# Altium schematic symbol library dungvh03-ICs.SchLib: 787 symbols (part 29 of 30)
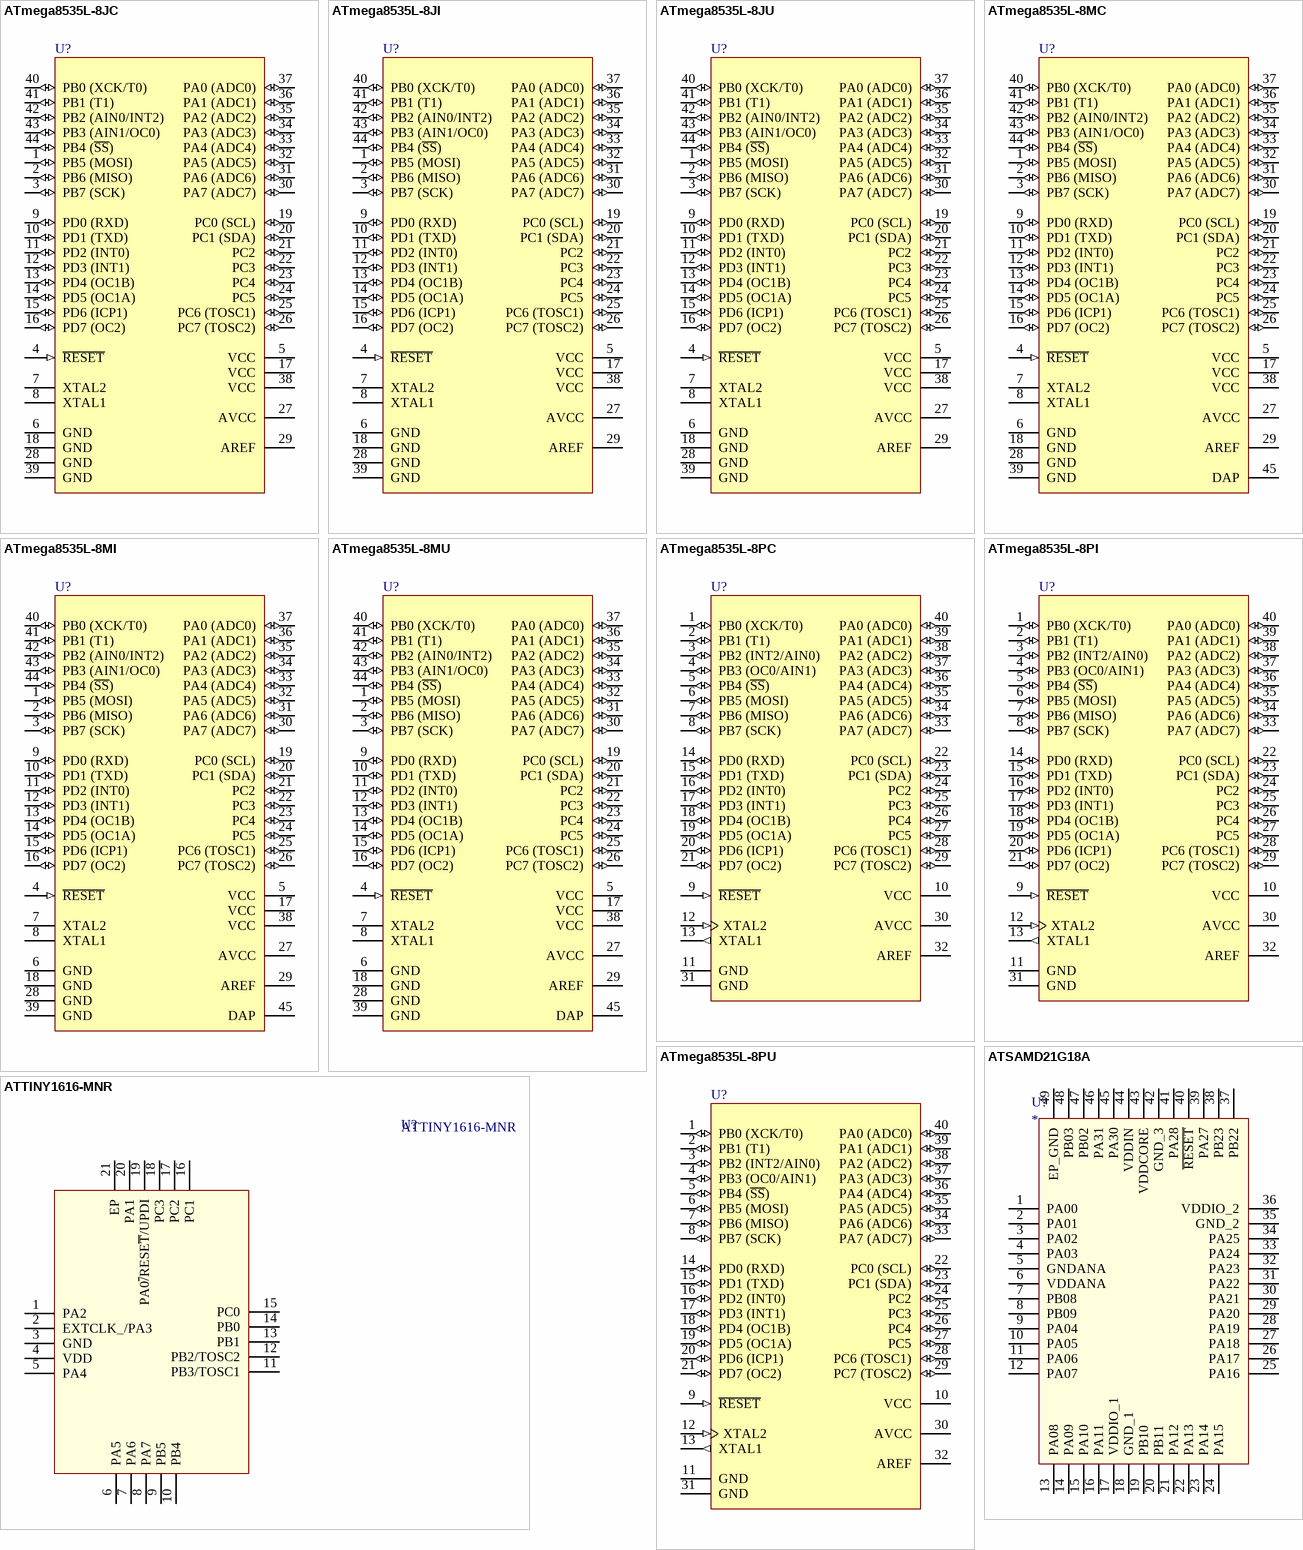
[diagram p126: symbols ATmega8535L-8JC to ATTINY1616-MNR]

## ATmega8535L-8JC
designator U?
8-bit AVR Microcontroller, 8KB Flash, 512 Bytes EEPROM, 512 Bytes SRAM, 2.7-5.5V, 44-pin PLCC, Commercial Grade (0°C to 70°C); DatasheetVersion: revK, Oct-2006; PackageVersion: rev.B, Oct-2001; PackageReference: 44J; PackageDescription: 44-Pin Plastic J-Leaded Chip Carrier 1.27 mm Pitch (PLCC); Code_JEDEC: MS-018-AC; Code_IPC: PLCC-44; ComponentLink1Description: Manufacturer URL; ComponentLink1URL: http://www.atmel.com/; ComponentLink2Description: ATmega8535(L) Datasheet; ComponentLink2URL: http://www.atmel.com/dyn/resources/prod_documents/doc2502.pdf; ComponentLink3Description: ATmega8535(L) Summary; ComponentLink3URL: http://www.atmel.com/dyn/resources/prod_documents/2502S.pdf
footprint 44J_N (Leaded Chip Carrier, 44-Leads, Body 16.6x16.6mm, Pitch 1.27mm, IPC Medium Density)
footprint 44J_L (Leaded Chip Carrier, 44-Leads, Body 16.6x16.6mm, Pitch 1.27mm, IPC High Density)
footprint 44J_M (Leaded Chip Carrier, 44-Leads, Body 16.6x16.6mm, Pitch 1.27mm, IPC Low Density)
pins: 1 PB5 (MOSI) (io), 2 PB6 (MISO) (io), 3 PB7 (SCK) (io), 4 ~{RESET} (in), 5 VCC (power), 6 GND (power), 7 XTAL2, 8 XTAL1, 9 PD0 (RXD) (io), 10 PD1 (TXD) (io), 11 PD2 (INT0) (io), 12 PD3 (INT1) (io), 13 PD4 (OC1B) (io), 14 PD5 (OC1A) (io), 15 PD6 (ICP1) (io), 16 PD7 (OC2) (io), 17 VCC (power), 18 GND (power), 19 PC0 (SCL) (io), 20 PC1 (SDA) (io), 21 PC2 (io), 22 PC3 (io), 23 PC4 (io), 24 PC5 (io), 25 PC6 (TOSC1) (io), 26 PC7 (TOSC2) (io), 27 AVCC (power), 28 GND (power), 29 AREF, 30 PA7 (ADC7) (io), 31 PA6 (ADC6) (io), 32 PA5 (ADC5) (io), 33 PA4 (ADC4) (io), 34 PA3 (ADC3) (io), 35 PA2 (ADC2) (io), 36 PA1 (ADC1) (io), 37 PA0 (ADC0) (io), 38 VCC (power), 39 GND (power), 40 PB0 (XCK/T0) (io), 41 PB1 (T1) (io), 42 PB2 (AIN0/INT2) (io), 43 PB3 (AIN1/OC0) (io), 44 PB4 (~{SS}) (io)

## ATmega8535L-8JI
designator U?
8-bit AVR Microcontroller, 8KB Flash, 512 Bytes EEPROM, 512 Bytes SRAM, 2.7-5.5V, 44-pin PLCC, Industrial Grade (-40°C to 85°C); DatasheetVersion: revK, Oct-2006; PackageVersion: rev.B, Oct-2001; PackageReference: 44J; PackageDescription: 44-Pin Plastic J-Leaded Chip Carrier 1.27 mm Pitch (PLCC); Code_JEDEC: MS-018-AC; Code_IPC: PLCC-44; ComponentLink1Description: Manufacturer URL; ComponentLink1URL: http://www.atmel.com/; ComponentLink2Description: ATmega8535(L) Datasheet; ComponentLink2URL: http://www.atmel.com/dyn/resources/prod_documents/doc2502.pdf; ComponentLink3Description: ATmega8535(L) Summary; ComponentLink3URL: http://www.atmel.com/dyn/resources/prod_documents/2502S.pdf
footprint 44J_N (Leaded Chip Carrier, 44-Leads, Body 16.6x16.6mm, Pitch 1.27mm, IPC Medium Density)
footprint 44J_L (Leaded Chip Carrier, 44-Leads, Body 16.6x16.6mm, Pitch 1.27mm, IPC High Density)
footprint 44J_M (Leaded Chip Carrier, 44-Leads, Body 16.6x16.6mm, Pitch 1.27mm, IPC Low Density)
pins: 1 PB5 (MOSI) (io), 2 PB6 (MISO) (io), 3 PB7 (SCK) (io), 4 ~{RESET} (in), 5 VCC (power), 6 GND (power), 7 XTAL2, 8 XTAL1, 9 PD0 (RXD) (io), 10 PD1 (TXD) (io), 11 PD2 (INT0) (io), 12 PD3 (INT1) (io), 13 PD4 (OC1B) (io), 14 PD5 (OC1A) (io), 15 PD6 (ICP1) (io), 16 PD7 (OC2) (io), 17 VCC (power), 18 GND (power), 19 PC0 (SCL) (io), 20 PC1 (SDA) (io), 21 PC2 (io), 22 PC3 (io), 23 PC4 (io), 24 PC5 (io), 25 PC6 (TOSC1) (io), 26 PC7 (TOSC2) (io), 27 AVCC (power), 28 GND (power), 29 AREF, 30 PA7 (ADC7) (io), 31 PA6 (ADC6) (io), 32 PA5 (ADC5) (io), 33 PA4 (ADC4) (io), 34 PA3 (ADC3) (io), 35 PA2 (ADC2) (io), 36 PA1 (ADC1) (io), 37 PA0 (ADC0) (io), 38 VCC (power), 39 GND (power), 40 PB0 (XCK/T0) (io), 41 PB1 (T1) (io), 42 PB2 (AIN0/INT2) (io), 43 PB3 (AIN1/OC0) (io), 44 PB4 (~{SS}) (io)

## ATmega8535L-8JU
designator U?
8-bit AVR Microcontroller, 8KB Flash, 512 Bytes EEPROM, 512 Bytes SRAM, 2.7-5.5V, 44-pin PLCC, Industrial Grade (-40°C to 85°C); DatasheetVersion: revK, Oct-2006; PackageVersion: rev.B, Oct-2001; PackageReference: 44J; PackageDescription: 44-Pin Plastic J-Leaded Chip Carrier 1.27 mm Pitch (PLCC); Code_JEDEC: MS-018-AC; Code_IPC: PLCC-44; ComponentLink1Description: Manufacturer URL; ComponentLink1URL: http://www.atmel.com/; ComponentLink2Description: ATmega8535(L) Datasheet; ComponentLink2URL: http://www.atmel.com/dyn/resources/prod_documents/doc2502.pdf; ComponentLink3Description: ATmega8535(L) Summary; ComponentLink3URL: http://www.atmel.com/dyn/resources/prod_documents/2502S.pdf
footprint 44J_N (Leaded Chip Carrier, 44-Leads, Body 16.6x16.6mm, Pitch 1.27mm, IPC Medium Density)
footprint 44J_L (Leaded Chip Carrier, 44-Leads, Body 16.6x16.6mm, Pitch 1.27mm, IPC High Density)
footprint 44J_M (Leaded Chip Carrier, 44-Leads, Body 16.6x16.6mm, Pitch 1.27mm, IPC Low Density)
pins: 1 PB5 (MOSI) (io), 2 PB6 (MISO) (io), 3 PB7 (SCK) (io), 4 ~{RESET} (in), 5 VCC (power), 6 GND (power), 7 XTAL2, 8 XTAL1, 9 PD0 (RXD) (io), 10 PD1 (TXD) (io), 11 PD2 (INT0) (io), 12 PD3 (INT1) (io), 13 PD4 (OC1B) (io), 14 PD5 (OC1A) (io), 15 PD6 (ICP1) (io), 16 PD7 (OC2) (io), 17 VCC (power), 18 GND (power), 19 PC0 (SCL) (io), 20 PC1 (SDA) (io), 21 PC2 (io), 22 PC3 (io), 23 PC4 (io), 24 PC5 (io), 25 PC6 (TOSC1) (io), 26 PC7 (TOSC2) (io), 27 AVCC (power), 28 GND (power), 29 AREF, 30 PA7 (ADC7) (io), 31 PA6 (ADC6) (io), 32 PA5 (ADC5) (io), 33 PA4 (ADC4) (io), 34 PA3 (ADC3) (io), 35 PA2 (ADC2) (io), 36 PA1 (ADC1) (io), 37 PA0 (ADC0) (io), 38 VCC (power), 39 GND (power), 40 PB0 (XCK/T0) (io), 41 PB1 (T1) (io), 42 PB2 (AIN0/INT2) (io), 43 PB3 (AIN1/OC0) (io), 44 PB4 (~{SS}) (io)

## ATmega8535L-8MC
designator U?
8-bit AVR Microcontroller, 8KB Flash, 512 Bytes EEPROM, 512 Bytes SRAM, 2.7-5.5V, 44-pin VQFN, Commercial Grade (0°C to 70°C); DatasheetVersion: revK, Oct-2006; PackageVersion: revH, Sep-2008; PackageReference: 44M1; PackageDescription: 44-Pin Plastic Very Thin Quad Flat No-Lead Package, 7 x 7 x 1.0 mm Body, 0.5 mm Pitch (VQFN), 5.2 mm Exposed Pad; Code_JEDEC: MO-220-VKKD-1; ComponentLink1Description: Manufacturer URL; ComponentLink1URL: http://www.atmel.com/; ComponentLink2Description: ATmega8535(L) Datasheet; ComponentLink2URL: http://www.atmel.com/dyn/resources/prod_documents/doc2502.pdf; ComponentLink3Description: ATmega8535(L) Summary; ComponentLink3URL: http://www.atmel.com/dyn/resources/prod_documents/2502S.pdf
footprint 44M1_N (QFN, 44-Leads, Body 7x7mm, Pitch 0.5mm, Thermal Pad 5.3x5.3mm, IPC Medium Density)
footprint 44M1_L (QFN, 44-Leads, Body 7x7mm, Pitch 0.5mm, Thermal Pad 5.3x5.3mm, IPC High Density)
footprint 44M1_M (QFN, 44-Leads, Body 7x7mm, Pitch 0.5mm, Thermal Pad 5.3x5.3mm, IPC Low Density)
pins: 1 PB5 (MOSI) (io), 2 PB6 (MISO) (io), 3 PB7 (SCK) (io), 4 ~{RESET} (in), 5 VCC (power), 6 GND (power), 7 XTAL2, 8 XTAL1, 9 PD0 (RXD) (io), 10 PD1 (TXD) (io), 11 PD2 (INT0) (io), 12 PD3 (INT1) (io), 13 PD4 (OC1B) (io), 14 PD5 (OC1A) (io), 15 PD6 (ICP1) (io), 16 PD7 (OC2) (io), 17 VCC (power), 18 GND (power), 19 PC0 (SCL) (io), 20 PC1 (SDA) (io), 21 PC2 (io), 22 PC3 (io), 23 PC4 (io), 24 PC5 (io), 25 PC6 (TOSC1) (io), 26 PC7 (TOSC2) (io), 27 AVCC (power), 28 GND (power), 29 AREF, 30 PA7 (ADC7) (io), 31 PA6 (ADC6) (io), 32 PA5 (ADC5) (io), 33 PA4 (ADC4) (io), 34 PA3 (ADC3) (io), 35 PA2 (ADC2) (io), 36 PA1 (ADC1) (io), 37 PA0 (ADC0) (io), 38 VCC (power), 39 GND (power), 40 PB0 (XCK/T0) (io), 41 PB1 (T1) (io), 42 PB2 (AIN0/INT2) (io), 43 PB3 (AIN1/OC0) (io), 44 PB4 (~{SS}) (io), 45 DAP (power)

## ATmega8535L-8MI
designator U?
8-bit AVR Microcontroller, 8KB Flash, 512 Bytes EEPROM, 512 Bytes SRAM, 2.7-5.5V, 44-pin VQFN, Industrial Grade (-40°C to 85°C); DatasheetVersion: revK, Oct-2006; PackageVersion: revH, Sep-2008; PackageReference: 44M1; PackageDescription: 44-Pin Plastic Very Thin Quad Flat No-Lead Package, 7 x 7 x 1.0 mm Body, 0.5 mm Pitch (VQFN), 5.2 mm Exposed Pad; Code_JEDEC: MO-220-VKKD-1; ComponentLink1Description: Manufacturer URL; ComponentLink1URL: http://www.atmel.com/; ComponentLink2Description: ATmega8535(L) Datasheet; ComponentLink2URL: http://www.atmel.com/dyn/resources/prod_documents/doc2502.pdf; ComponentLink3Description: ATmega8535(L) Summary; ComponentLink3URL: http://www.atmel.com/dyn/resources/prod_documents/2502S.pdf
footprint 44M1_N (QFN, 44-Leads, Body 7x7mm, Pitch 0.5mm, Thermal Pad 5.3x5.3mm, IPC Medium Density)
footprint 44M1_L (QFN, 44-Leads, Body 7x7mm, Pitch 0.5mm, Thermal Pad 5.3x5.3mm, IPC High Density)
footprint 44M1_M (QFN, 44-Leads, Body 7x7mm, Pitch 0.5mm, Thermal Pad 5.3x5.3mm, IPC Low Density)
pins: 1 PB5 (MOSI) (io), 2 PB6 (MISO) (io), 3 PB7 (SCK) (io), 4 ~{RESET} (in), 5 VCC (power), 6 GND (power), 7 XTAL2, 8 XTAL1, 9 PD0 (RXD) (io), 10 PD1 (TXD) (io), 11 PD2 (INT0) (io), 12 PD3 (INT1) (io), 13 PD4 (OC1B) (io), 14 PD5 (OC1A) (io), 15 PD6 (ICP1) (io), 16 PD7 (OC2) (io), 17 VCC (power), 18 GND (power), 19 PC0 (SCL) (io), 20 PC1 (SDA) (io), 21 PC2 (io), 22 PC3 (io), 23 PC4 (io), 24 PC5 (io), 25 PC6 (TOSC1) (io), 26 PC7 (TOSC2) (io), 27 AVCC (power), 28 GND (power), 29 AREF, 30 PA7 (ADC7) (io), 31 PA6 (ADC6) (io), 32 PA5 (ADC5) (io), 33 PA4 (ADC4) (io), 34 PA3 (ADC3) (io), 35 PA2 (ADC2) (io), 36 PA1 (ADC1) (io), 37 PA0 (ADC0) (io), 38 VCC (power), 39 GND (power), 40 PB0 (XCK/T0) (io), 41 PB1 (T1) (io), 42 PB2 (AIN0/INT2) (io), 43 PB3 (AIN1/OC0) (io), 44 PB4 (~{SS}) (io), 45 DAP (power)

## ATmega8535L-8MU
designator U?
8-bit AVR Microcontroller, 8KB Flash, 512 Bytes EEPROM, 512 Bytes SRAM, 2.7-5.5V, 44-pin VQFN, Industrial Grade (-40°C to 85°C); DatasheetVersion: revK, Oct-2006; PackageVersion: revH, Sep-2008; PackageReference: 44M1; PackageDescription: 44-Pin Plastic Very Thin Quad Flat No-Lead Package, 7 x 7 x 1.0 mm Body, 0.5 mm Pitch (VQFN), 5.2 mm Exposed Pad; Code_JEDEC: MO-220-VKKD-1; ComponentLink1Description: Manufacturer URL; ComponentLink1URL: http://www.atmel.com/; ComponentLink2Description: ATmega8535(L) Datasheet; ComponentLink2URL: http://www.atmel.com/dyn/resources/prod_documents/doc2502.pdf; ComponentLink3Description: ATmega8535(L) Summary; ComponentLink3URL: http://www.atmel.com/dyn/resources/prod_documents/2502S.pdf
footprint 44M1_N (QFN, 44-Leads, Body 7x7mm, Pitch 0.5mm, Thermal Pad 5.3x5.3mm, IPC Medium Density)
footprint 44M1_L (QFN, 44-Leads, Body 7x7mm, Pitch 0.5mm, Thermal Pad 5.3x5.3mm, IPC High Density)
footprint 44M1_M (QFN, 44-Leads, Body 7x7mm, Pitch 0.5mm, Thermal Pad 5.3x5.3mm, IPC Low Density)
pins: 1 PB5 (MOSI) (io), 2 PB6 (MISO) (io), 3 PB7 (SCK) (io), 4 ~{RESET} (in), 5 VCC (power), 6 GND (power), 7 XTAL2, 8 XTAL1, 9 PD0 (RXD) (io), 10 PD1 (TXD) (io), 11 PD2 (INT0) (io), 12 PD3 (INT1) (io), 13 PD4 (OC1B) (io), 14 PD5 (OC1A) (io), 15 PD6 (ICP1) (io), 16 PD7 (OC2) (io), 17 VCC (power), 18 GND (power), 19 PC0 (SCL) (io), 20 PC1 (SDA) (io), 21 PC2 (io), 22 PC3 (io), 23 PC4 (io), 24 PC5 (io), 25 PC6 (TOSC1) (io), 26 PC7 (TOSC2) (io), 27 AVCC (power), 28 GND (power), 29 AREF, 30 PA7 (ADC7) (io), 31 PA6 (ADC6) (io), 32 PA5 (ADC5) (io), 33 PA4 (ADC4) (io), 34 PA3 (ADC3) (io), 35 PA2 (ADC2) (io), 36 PA1 (ADC1) (io), 37 PA0 (ADC0) (io), 38 VCC (power), 39 GND (power), 40 PB0 (XCK/T0) (io), 41 PB1 (T1) (io), 42 PB2 (AIN0/INT2) (io), 43 PB3 (AIN1/OC0) (io), 44 PB4 (~{SS}) (io), 45 DAP (power)

## ATmega8535L-8PC
designator U?
8-bit AVR Microcontroller, 8KB Flash, 512 Bytes EEPROM, 512 Bytes SRAM, 2.7-5.5V, 40-pin PDIP, Commercial Grade (0°C to 70°C); DatasheetVersion: revK, Oct-2006; PackageVersion: revB, Sep-2001; PackageReference: 40P6; PackageDescription: 40-lead (0.600"/15.24mm Wide) Plastic Dual Inline Package (PDIP); Code_JEDEC: MS-011-AC; ComponentLink1Description: Manufacturer URL; ComponentLink1URL: http://www.atmel.com/; ComponentLink2Description: ATmega8535(L) Datasheet; ComponentLink2URL: http://www.atmel.com/dyn/resources/prod_documents/doc2502.pdf; ComponentLink3Description: ATmega8535(L) Summary; ComponentLink3URL: http://www.atmel.com/dyn/resources/prod_documents/2502S.pdf
footprint 40P6 (DIP, 40-Leads, Row Spacing 15.24mm, Pitch 2.54mm, Body 52.2x13.95mm)
pins: 1 PB0 (XCK/T0) (io), 2 PB1 (T1) (io), 3 PB2 (INT2/AIN0) (io), 4 PB3 (OC0/AIN1) (io), 5 PB4 (~{SS}) (io), 6 PB5 (MOSI) (io), 7 PB6 (MISO) (io), 8 PB7 (SCK) (io), 9 ~{RESET} (in), 10 VCC (power), 11 GND (power), 12 XTAL2 (in), 13 XTAL1 (out), 14 PD0 (RXD) (io), 15 PD1 (TXD) (io), 16 PD2 (INT0) (io), 17 PD3 (INT1) (io), 18 PD4 (OC1B) (io), 19 PD5 (OC1A) (io), 20 PD6 (ICP1) (io), 21 PD7 (OC2) (io), 22 PC0 (SCL) (io), 23 PC1 (SDA) (io), 24 PC2 (io), 25 PC3 (io), 26 PC4 (io), 27 PC5 (io), 28 PC6 (TOSC1) (io), 29 PC7 (TOSC2) (io), 30 AVCC (power), 31 GND (power), 32 AREF (power), 33 PA7 (ADC7) (io), 34 PA6 (ADC6) (io), 35 PA5 (ADC5) (io), 36 PA4 (ADC4) (io), 37 PA3 (ADC3) (io), 38 PA2 (ADC2) (io), 39 PA1 (ADC1) (io), 40 PA0 (ADC0) (io)

## ATmega8535L-8PI
designator U?
8-bit AVR Microcontroller, 8KB Flash, 512 Bytes EEPROM, 512 Bytes SRAM, 2.7-5.5V, 40-pin PDIP, Industrial Grade (-40°C to 85°C); DatasheetVersion: revK, Oct-2006; PackageVersion: revB, Sep-2001; PackageReference: 40P6; PackageDescription: 40-lead (0.600"/15.24mm Wide) Plastic Dual Inline Package (PDIP); Code_JEDEC: MS-011-AC; ComponentLink1Description: Manufacturer URL; ComponentLink1URL: http://www.atmel.com/; ComponentLink2Description: ATmega8535(L) Datasheet; ComponentLink2URL: http://www.atmel.com/dyn/resources/prod_documents/doc2502.pdf; ComponentLink3Description: ATmega8535(L) Summary; ComponentLink3URL: http://www.atmel.com/dyn/resources/prod_documents/2502S.pdf
footprint 40P6 (DIP, 40-Leads, Row Spacing 15.24mm, Pitch 2.54mm, Body 52.2x13.95mm)
pins: 1 PB0 (XCK/T0) (io), 2 PB1 (T1) (io), 3 PB2 (INT2/AIN0) (io), 4 PB3 (OC0/AIN1) (io), 5 PB4 (~{SS}) (io), 6 PB5 (MOSI) (io), 7 PB6 (MISO) (io), 8 PB7 (SCK) (io), 9 ~{RESET} (in), 10 VCC (power), 11 GND (power), 12 XTAL2 (in), 13 XTAL1 (out), 14 PD0 (RXD) (io), 15 PD1 (TXD) (io), 16 PD2 (INT0) (io), 17 PD3 (INT1) (io), 18 PD4 (OC1B) (io), 19 PD5 (OC1A) (io), 20 PD6 (ICP1) (io), 21 PD7 (OC2) (io), 22 PC0 (SCL) (io), 23 PC1 (SDA) (io), 24 PC2 (io), 25 PC3 (io), 26 PC4 (io), 27 PC5 (io), 28 PC6 (TOSC1) (io), 29 PC7 (TOSC2) (io), 30 AVCC (power), 31 GND (power), 32 AREF (power), 33 PA7 (ADC7) (io), 34 PA6 (ADC6) (io), 35 PA5 (ADC5) (io), 36 PA4 (ADC4) (io), 37 PA3 (ADC3) (io), 38 PA2 (ADC2) (io), 39 PA1 (ADC1) (io), 40 PA0 (ADC0) (io)

## ATmega8535L-8PU
designator U?
8-bit AVR Microcontroller, 8KB Flash, 512 Bytes EEPROM, 512 Bytes SRAM, 2.7-5.5V, 40-pin PDIP, Industrial Grade (-40°C to 85°C); DatasheetVersion: revK, Oct-2006; PackageVersion: revB, Sep-2001; PackageReference: 40P6; PackageDescription: 40-lead (0.600"/15.24mm Wide) Plastic Dual Inline Package (PDIP); Code_JEDEC: MS-011-AC; ComponentLink1Description: Manufacturer URL; ComponentLink1URL: http://www.atmel.com/; ComponentLink2Description: ATmega8535(L) Datasheet; ComponentLink2URL: http://www.atmel.com/dyn/resources/prod_documents/doc2502.pdf; ComponentLink3Description: ATmega8535(L) Summary; ComponentLink3URL: http://www.atmel.com/dyn/resources/prod_documents/2502S.pdf
footprint 40P6 (DIP, 40-Leads, Row Spacing 15.24mm, Pitch 2.54mm, Body 52.2x13.95mm)
pins: 1 PB0 (XCK/T0) (io), 2 PB1 (T1) (io), 3 PB2 (INT2/AIN0) (io), 4 PB3 (OC0/AIN1) (io), 5 PB4 (~{SS}) (io), 6 PB5 (MOSI) (io), 7 PB6 (MISO) (io), 8 PB7 (SCK) (io), 9 ~{RESET} (in), 10 VCC (power), 11 GND (power), 12 XTAL2 (in), 13 XTAL1 (out), 14 PD0 (RXD) (io), 15 PD1 (TXD) (io), 16 PD2 (INT0) (io), 17 PD3 (INT1) (io), 18 PD4 (OC1B) (io), 19 PD5 (OC1A) (io), 20 PD6 (ICP1) (io), 21 PD7 (OC2) (io), 22 PC0 (SCL) (io), 23 PC1 (SDA) (io), 24 PC2 (io), 25 PC3 (io), 26 PC4 (io), 27 PC5 (io), 28 PC6 (TOSC1) (io), 29 PC7 (TOSC2) (io), 30 AVCC (power), 31 GND (power), 32 AREF (power), 33 PA7 (ADC7) (io), 34 PA6 (ADC6) (io), 35 PA5 (ADC5) (io), 36 PA4 (ADC4) (io), 37 PA3 (ADC3) (io), 38 PA2 (ADC2) (io), 39 PA1 (ADC1) (io), 40 PA0 (ADC0) (io)

## ATSAMD21G18A
designator U?
footprint QFN50P700X700
pins: 1 PA00, 2 PA01, 3 PA02, 4 PA03, 5 GNDANA, 6 VDDANA (power), 7 PB08, 8 PB09, 9 PA04, 10 PA05, 11 PA06, 12 PA07, 13 PA08, 14 PA09, 15 PA10, 16 PA11, 17 VDDIO_1 (power), 18 GND_1, 19 PB10, 20 PB11, 21 PA12, 22 PA13, 23 PA14, 24 PA15, 25 PA16, 26 PA17, 27 PA18, 28 PA19, 29 PA20, 30 PA21, 31 PA22, 32 PA23, 33 PA24, 34 PA25, 35 GND_2, 36 VDDIO_2 (power), 37 PB22, 38 PB23, 39 PA27, 40 ~{RESET}, 41 PA28, 42 GND_3, 43 VDDCORE (power), 44 VDDIN (power), 45 PA30, 46 PA31, 47 PB02, 48 PB03, 49 EP_GND

## ATTINY1616-MNR
designator U?
Microchip ATTINY1616-MNR, 8bit AVR Microcontroller, 20MHz, 16 kB Flash, 20-Pin VQFN; Geometry.Height: 0.9mm; Manufacturer_Name: Microchip; Manufacturer_Part_Number: ATTINY1616-MNR; RS Part Number: 1449436; RS Price/Stock: http://uk.rs-online.com/web/p/products/1449436; Arrow Part Number: ATTINY1616-MNR; Arrow Price/Stock: https://www.arrow.com/en/products/attiny1616-mnr/microchip-technology; Datasheet Link: http://ww1.microchip.com/downloads/en/DeviceDoc/ATtiny3216_ATtiny1616-data-sheet-40001997B.pdf
footprint VQFN20
pins: 1 PA2, 2 EXTCLK_/PA3, 3 GND, 4 VDD, 5 PA4, 6 PA5, 7 PA6, 8 PA7, 9 PB5, 10 PB4, 11 PB3/TOSC1, 12 PB2/TOSC2, 13 PB1, 14 PB0, 15 PC0, 16 PC1, 17 PC2, 18 PC3, 19 PA0~{/}RESE~{T}/UPDI, 20 PA1, 21 EP

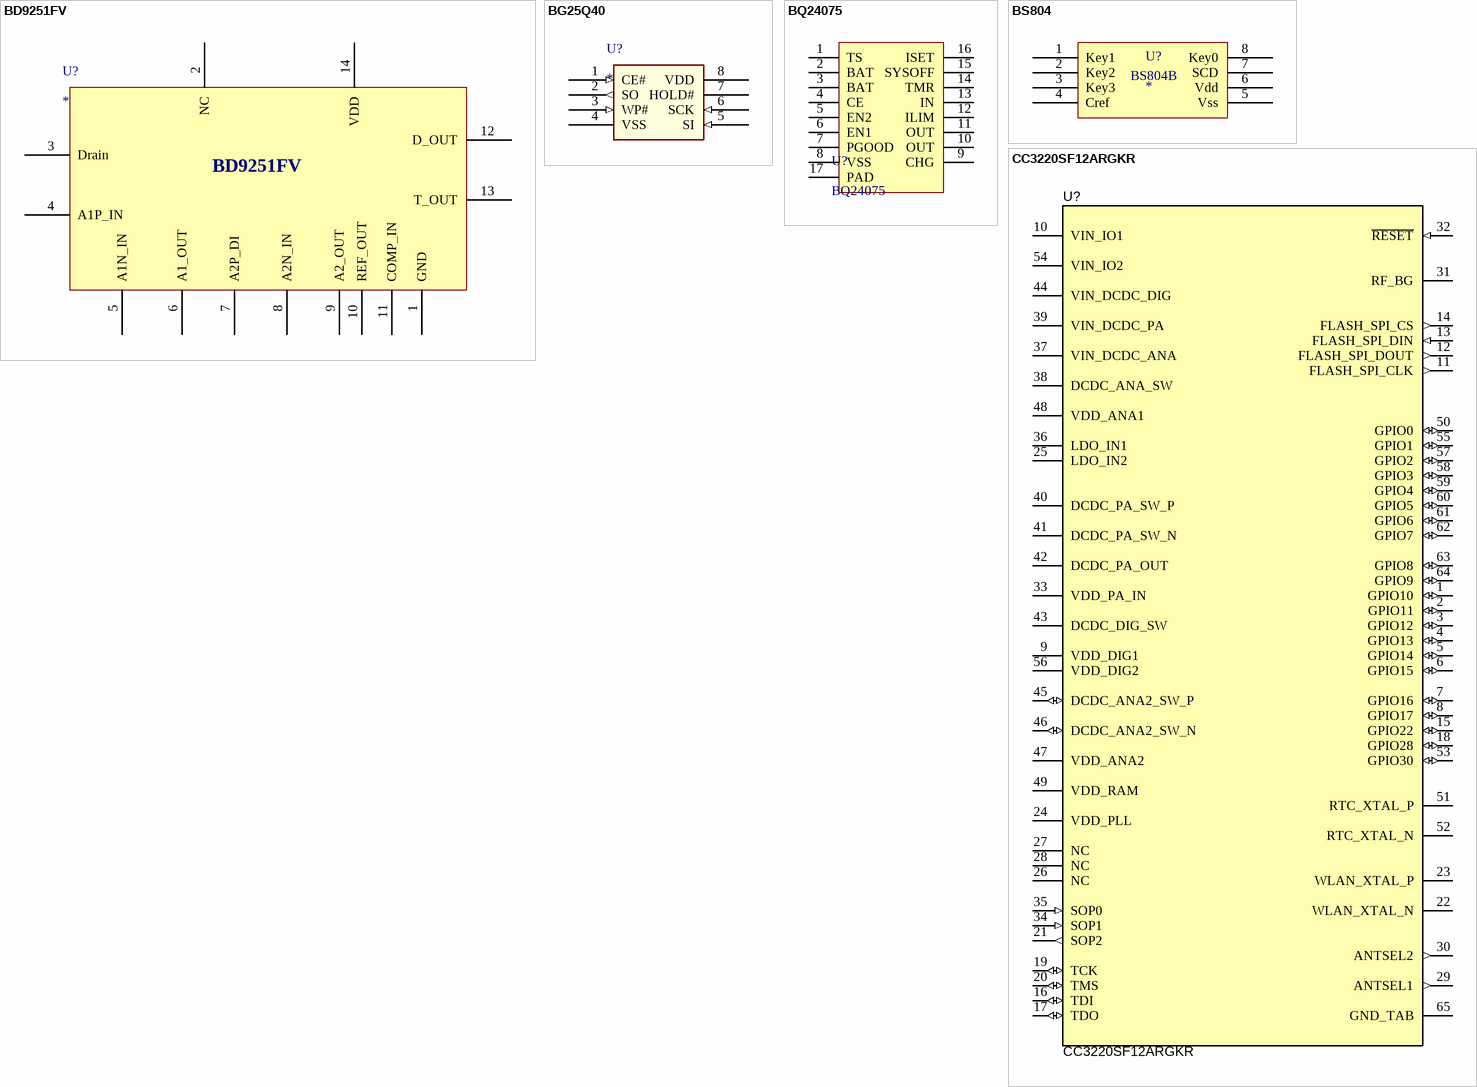
[diagram p89: symbols BD9251FV to CC3220SF12ARGKR]

## BD9251FV
designator U?
footprint SSOP-B14 (SSOP, 14-Leads, Body 5.10x4.50mm, Pitch 0.65mm, IPC Medium Density)
pins: 1 GND, 2 NC, 3 Drain, 4 A1P_IN, 5 A1N_IN, 6 A1_OUT, 7 A2P_DI, 8 A2N_IN, 9 A2_OUT, 10 REF_OUT, 11 COMP_IN, 12 D_OUT, 13 T_OUT, 14 VDD

## BG25Q40
designator U?
footprint SOIC-8
pins: 1 CE# (in), 2 SO (out), 3 WP# (in), 4 VSS (power), 5 SI (in), 6 SCK (in), 7 HOLD#, 8 VDD (power)

## BQ24075
designator U?
Power; Type: QFN16 P0.5
footprint QFN_P0.5_PAD_16
pins: 1 TS, 2 BAT, 3 BAT, 4 CE, 5 EN2, 6 EN1, 7 PGOOD, 8 VSS, 9 CHG, 10 OUT, 11 OUT, 12 ILIM, 13 IN, 14 TMR, 15 SYSOFF, 16 ISET, 17 PAD

## BS804
designator U?
footprint SOP-8
pins: 1 Key1, 2 Key2, 3 Key3, 4 Cref, 5 Vss, 6 Vdd, 7 SCD, 8 Key0
text: BS804B

## CC3220SF12ARGKR
designator U?
SimpleLink Wi-Fi and Internet-of-Things Solution, a Single-Chip Wireless MCU, RGK0064B (VQFN-64); Alternate PartNumber: CC3220SF12ARGKT; Manufacturer: Texas Instruments; SymbolCreator: Altium; CompType: IC; U/M: EA; SizeArea_mm2: 81; SizeAreaWB_mm2: 121; SizeX_mm: 9; SizeZ_mm: 1; SymbolVersion: 2015-09-21; PartNumber: CC3220SF12ARGKR; PackageReference: RGK0064B; MountType: SMT; ComponentLink1Description: Datasheet Link; ComponentLink1URL: https://sps06.itg.ti.com/sites/KMS/crossdivteams/altium/docs/ComponentDatasheets/SWAS035_CC3220_Advanced_Information_July2015.pdf; Publisher: Texas Instruments; LatestRevisionDate: 2016-11-18; Alternate Manufacturer: Texas Instruments; PackageDescription: VQFN-64; SizeY_mm: 9
footprint RGK0064B
pins: 1 GPIO10 (io), 2 GPIO11 (io), 3 GPIO12 (io), 4 GPIO13 (io), 5 GPIO14 (io), 6 GPIO15 (io), 7 GPIO16 (io), 8 GPIO17 (io), 9 VDD_DIG1 (power), 10 VIN_IO1 (power), 11 FLASH_SPI_CLK (out), 12 FLASH_SPI_DOUT (out), 13 FLASH_SPI_DIN (in), 14 FLASH_SPI_CS (out), 15 GPIO22 (io), 16 TDI (io), 17 TDO (io), 18 GPIO28 (io), 19 TCK (io), 20 TMS (io), 21 SOP2 (out), 22 WLAN_XTAL_N, 23 WLAN_XTAL_P, 24 VDD_PLL (power), 25 LDO_IN2 (power), 26 NC, 27 NC, 28 NC, 29 ANTSEL1 (out), 30 ANTSEL2 (out), 31 RF_BG, 32 ~{RESET} (in), 33 VDD_PA_IN (power), 34 SOP1 (in), 35 SOP0 (in), 36 LDO_IN1 (power), 37 VIN_DCDC_ANA (power), 38 DCDC_ANA_SW (power), 39 VIN_DCDC_PA (power), 40 DCDC_PA_SW_P (power), 41 DCDC_PA_SW_N (power), 42 DCDC_PA_OUT (power), 43 DCDC_DIG_SW (power), 44 VIN_DCDC_DIG (power), 45 DCDC_ANA2_SW_P (io), 46 DCDC_ANA2_SW_N (io), 47 VDD_ANA2 (power), 48 VDD_ANA1 (power), 49 VDD_RAM (power), 50 GPIO0 (io), 51 RTC_XTAL_P, 52 RTC_XTAL_N, 53 GPIO30 (io), 54 VIN_IO2 (power), 55 GPIO1 (io), 56 VDD_DIG2 (power), 57 GPIO2 (io), 58 GPIO3 (io), 59 GPIO4 (io), 60 GPIO5 (io), 61 GPIO6 (io), 62 GPIO7 (io), 63 GPIO8 (io), 64 GPIO9 (io), 65 GND_TAB (power)

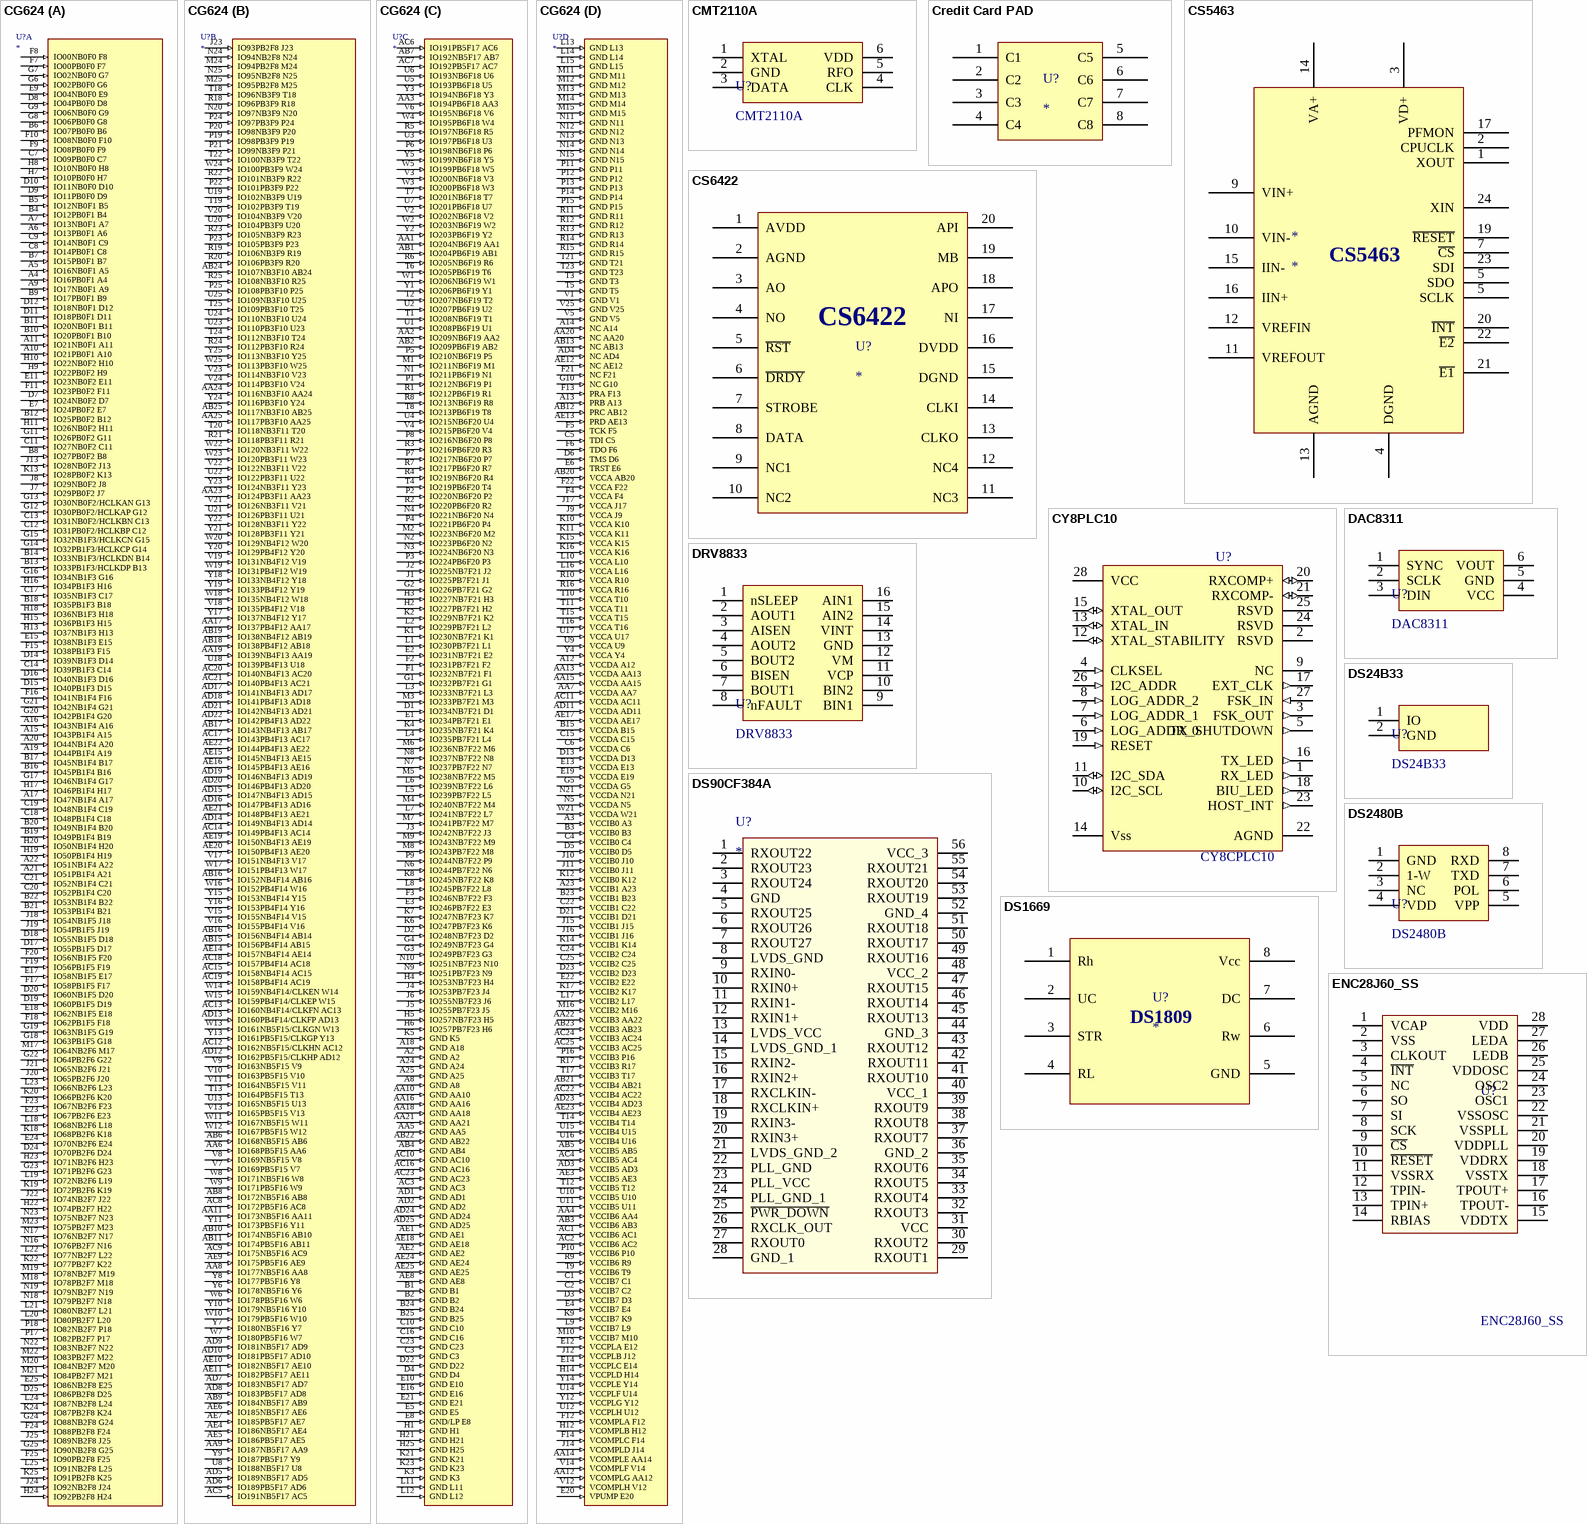
[diagram p90: symbols CG624 to ENC28J60_SS]

## CG624
designator U?
footprint CG624
part A pins: A4 IO16PB0F1 A4 (in), A5 IO16NB0F1 A5 (in), A6 IO13PB0F1 A6 (in), A7 IO13NB0F1 A7 (in), A9 IO17NB0F1 A9 (in), A10 IO21PB0F1 A10 (in), A11 IO21NB0F1 A11 (in), A15 IO43PB1F4 A15 (in), A16 IO43NB1F4 A16 (in), A17 IO47NB1F4 A17 (in), A19 IO44PB1F4 A19 (in), A20 IO44NB1F4 A20 (in), A21 IO51PB1F4 A21 (in), A22 IO51NB1F4 A22 (in), B4 IO12PB0F1 B4 (in), B5 IO12NB0F1 B5 (in), B6 IO07PB0F0 B6 (in), B7 IO15PB0F1 B7 (in), B8 IO27PB0F2 B8 (in), B9 IO17PB0F1 B9 (in), B10 IO20PB0F1 B10 (in), B11 IO20NB0F1 B11 (in), B12 IO25PB0F2 B12 (in), B13 IO33PB1F3/HCLKDP B13 (in), B14 IO33NB1F3/HCLKDN B14 (in), B16 IO45PB1F4 B16 (in), B17 IO45NB1F4 B17 (in), B18 IO35PB1F3 B18 (in), B19 IO49PB1F4 B19 (in), B20 IO49NB1F4 B20 (in), B21 IO53PB1F4 B21 (in), B22 IO53NB1F4 B22 (in), C7 IO09PB0F0 C7 (in), C8 IO14PB0F1 C8 (in), C9 IO14NB0F1 C9 (in), C11 IO27NB0F2 C11 (in), C12 IO31PB0F2/HCLKBP C12 (in), C13 IO31NB0F2/HCLKBN C13 (in), C14 IO39PB1F3 C14 (in), C17 IO35NB1F3 C17 (in), C18 IO48PB1F4 C18 (in), C19 IO48NB1F4 C19 (in), C20 IO52PB1F4 C20 (in), C21 IO52NB1F4 C21 (in), D7 IO24NB0F2 D7 (in), D8 IO04PB0F0 D8 (in), D9 IO11PB0F0 D9 (in), D10 IO11NB0F0 D10 (in), D11 IO18PB0F1 D11 (in), D12 IO18NB0F1 D12 (in), D14 IO39NB1F3 D14 (in), D15 IO40PB1F3 D15 (in), D16 IO40NB1F3 D16 (in), D17 IO55PB1F5 D17 (in), D18 IO55NB1F5 D18 (in), D19 IO60PB1F5 D19 (in), D20 IO60NB1F5 D20 (in), D24 IO70PB2F6 D24 (in), D25 IO86PB2F8 D25 (in), E7 IO24PB0F2 E7 (in), E9 IO04NB0F0 E9 (in), E11 IO23NB0F2 E11 (in), E15 IO38NB1F3 E15 (in), E17 IO58NB1F5 E17 (in), E18 IO62NB1F5 E18 (in), E23 IO67PB2F6 E23 (in), E24 IO70NB2F6 E24 (in), E25 IO86NB2F8 E25 (in), F7 IO00PB0F0 F7 (in), F8 IO00NB0F0 F8 (in), F9 IO08PB0F0 F9 (in), F10 IO08NB0F0 F10 (in), F11 IO23PB0F2 F11 (in), F15 IO38PB1F3 F15 (in), F16 IO41NB1F4 F16 (in), F17 IO58PB1F5 F17 (in), F18 IO62PB1F5 F18 (in), F19 IO56PB1F5 F19 (in), F20 IO56NB1F5 F20 (in), F23 IO67NB2F6 F23 (in), F24 IO88PB2F8 F24 (in), F25 IO90PB2F8 F25 (in), G6 IO02PB0F0 G6 (in), G7 IO02NB0F0 G7 (in), G8 IO06PB0F0 G8 (in), G9 IO06NB0F0 G9 (in), G11 IO26PB0F2 G11 (in), G12 IO30PB0F2/HCLKAP G12 (in), G13 IO30NB0F2/HCLKAN G13 (in), G14 IO32PB1F3/HCLKCP G14 (in), G15 IO32NB1F3/HCLKCN G15 (in), G16 IO34NB1F3 G16 (in), G17 IO46NB1F4 G17 (in), G18 IO63PB1F5 G18 (in), G19 IO63NB1F5 G19 (in), G20 IO42PB1F4 G20 (in), G21 IO42NB1F4 G21 (in), G22 IO64PB2F6 G22 (in), G23 IO71PB2F6 G23 (in), G24 IO88NB2F8 G24 (in), G25 IO90NB2F8 G25 (in), H7 IO10PB0F0 H7 (in), H8 IO10NB0F0 H8 (in), H9 IO22PB0F2 H9 (in), H10 IO22NB0F2 H10 (in), H11 IO26NB0F2 H11 (in), H13 IO37NB1F3 H13 (in), H15 IO36PB1F3 H15 (in), H16 IO34PB1F3 H16 (in), H17 IO46PB1F4 H17 (in), H18 IO36NB1F3 H18 (in), H19 IO50PB1F4 H19 (in), H20 IO50NB1F4 H20 (in), H22 IO74PB2F7 H22 (in), H23 IO71NB2F6 H23 (in), H24 IO92PB2F8 H24 (in), J7 IO29PB0F2 J7 (in), J8 IO29NB0F2 J8 (in), J13 IO28NB0F2 J13 (in), J18 IO54NB1F5 J18 (in), J19 IO54PB1F5 J19 (in), J20 IO65PB2F6 J20 (in), J21 IO65NB2F6 J21 (in), J22 IO74NB2F7 J22 (in), J24 IO92NB2F8 J24 (in), J25 IO89NB2F8 J25 (in), K13 IO28PB0F2 K13 (in), K18 IO68PB2F6 K18 (in), K19 IO72PB2F6 K19 (in), K20 IO66PB2F6 K20 (in), K22 IO77PB2F7 K22 (in), K24 IO87PB2F8 K24 (in), K25 IO91PB2F8 K25 (in), L18 IO68NB2F6 L18 (in), L19 IO72NB2F6 L19 (in), L20 IO80PB2F7 L20 (in), L21 IO80NB2F7 L21 (in), L22 IO77NB2F7 L22 (in), L23 IO66NB2F6 L23 (in), L24 IO87NB2F8 L24 (in), L25 IO91NB2F8 L25 (in), M17 IO64NB2F6 M17 (in), M18 IO78PB2F7 M18 (in), M19 IO78NB2F7 M19 (in), M20 IO84NB2F7 M20 (in), M21 IO84PB2F7 M21 (in), M22 IO83PB2F7 M22 (in), M23 IO75PB2F7 M23 (in), N16 IO76PB2F7 N16 (in), N17 IO76NB2F7 N17 (in), N18 IO79PB2F7 N18 (in), N19 IO79NB2F7 N19 (in), N22 IO83NB2F7 N22 (in), N23 IO75NB2F7 N23 (in), P17 IO82PB2F7 P17 (in), P18 IO82NB2F7 P18 (in)
part B pins: AA6 IO168PB5F15 AA6 (in), AA8 IO177NB5F16 AA8 (in), AA9 IO187NB5F17 AA9 (in), AA11 IO173NB5F16 AA11 (in), AA17 IO137PB4F12 AA17 (in), AA19 IO139NB4F13 AA19 (in), AA23 IO124PB3F11 AA23 (in), AA24 IO116NB3F10 AA24 (in), AA25 IO117PB3F10 AA25 (in), AB6 IO168NB5F15 AB6 (in), AB8 IO172NB5F16 AB8 (in), AB9 IO184NB5F17 AB9 (in), AB10 IO174NB5F16 AB10 (in), AB11 IO174PB5F16 AB11 (in), AB15 IO156PB4F14 AB15 (in), AB16 IO152NB4F14 AB16 (in), AB16 IO156NB4F14 AB14 (in), AB17 IO143NB4F13 AB17 (in), AB18 IO138PB4F12 AB18 (in), AB19 IO138NB4F12 AB19 (in), AB24 IO107NB3F10 AB24 (in), AB25 IO117NB3F10 AB25 (in), AC5 IO191NB5F17 AC5 (in), AC8 IO172PB5F16 AC8 (in), AC9 IO175NB5F16 AC9 (in), AC12 IO162NB5F15/CLKHN AC12 (in), AC13 IO160NB4F14/CLKFN AC13 (in), AC14 IO149PB4F13 AC14 (in), AC15 IO158NB4F14 AC15 (in), AC17 IO143PB4F13 AC17 (in), AC18 IO157PB4F14 AC18 (in), AC19 IO158PB4F14 AC19 (in), AC20 IO140NB4F13 AC20 (in), AC21 IO140PB4F13 AC21 (in), AD5 IO189NB5F17 AD5 (in), AD6 IO189PB5F17 AD6 (in), AD7 IO183NB5F17 AD7 (in), AD8 IO183PB5F17 AD8 (in), AD9 IO181NB5F17 AD9 (in), AD10 IO181PB5F17 AD10 (in), AD12 IO162PB5F15/CLKHP AD12 (in), AD13 IO160PB4F14/CLKFP AD13 (in), AD14 IO149NB4F13 AD14 (in), AD15 IO147NB4F13 AD15 (in), AD16 IO147PB4F13 AD16 (in), AD17 IO141NB4F13 AD17 (in), AD18 IO141PB4F13 AD18 (in), AD19 IO146NB4F13 AD19 (in), AD20 IO146PB4F13 AD20 (in), AD21 IO142NB4F13 AD21 (in), AD22 IO142PB4F13 AD22 (in), AE4 IO186NB5F17 AE4 (in), AE5 IO186PB5F17 AE5 (in), AE6 IO185NB5F17 AE6 (in), AE7 IO185PB5F17 AE7 (in), AE9 IO175PB5F16 AE9 (in), AE10 IO182NB5F17 AE10 (in), AE11 IO182PB5F17 AE11 (in), AE14 IO157NB4F14 AE14 (in), AE15 IO145NB4F13 AE15 (in), AE16 IO145PB4F13 AE16 (in), AE19 IO150NB4F13 AE19 (in), AE20 IO150PB4F13 AE20 (in), AE21 IO148PB4F13 AE21 (in), AE22 IO144PB4F13 AE22 (in), J23 IO93PB2F8 J23 (in), M24 IO94PB2F8 M24 (in), M25 IO95PB2F8 M25 (in), N20 IO97NB3F9 N20 (in), N24 IO94NB2F8 N24 (in), N25 IO95NB2F8 N25 (in), P19 IO98PB3F9 P19 (in), P20 IO98NB3F9 P20 (in), P21 IO99NB3F9 P21 (in), P22 IO101PB3F9 P22 (in), P23 IO105PB3F9 P23 (in), P24 IO97PB3F9 P24 (in), P25 IO108PB3F10 P25 (in), R18 IO96PB3F9 R18 (in), R19 IO106NB3F9 R19 (in), R20 IO106PB3F9 R20 (in), R21 IO118PB3F11 R21 (in), R22 IO101NB3F9 R22 (in), R23 IO105NB3F9 R23 (in), R24 IO112PB3F10 R24 (in), R25 IO108NB3F10 R25 (in), T13 IO164PB5F15 T13 (in), T18 IO96NB3F9 T18 (in), T19 IO102PB3F9 T19 (in), T20 IO118NB3F11 T20 (in), T22 IO100NB3F9 T22 (in), T24 IO112NB3F10 T24 (in), T25 IO109PB3F10 T25 (in), U8 IO188NB5F17 U8 (in), U13 IO165NB5F15 U13 (in), U18 IO139PB4F13 U18 (in), U19 IO102NB3F9 U19 (in), U20 IO104PB3F9 U20 (in), U21 IO126PB3F11 U21 (in), U22 IO122PB3F11 U22 (in), U23 IO110PB3F10 U23 (in), U24 IO110NB3F10 U24 (in), U25 IO109NB3F10 U25 (in), V7 IO169PB5F15 V7 (in), V8 IO169NB5F15 V8 (in), V9 IO163NB5F15 V9 (in), V10 IO163PB5F15 V10 (in), V11 IO164NB5F15 V11 (in), V13 IO165PB5F15 V13 (in), V15 IO155NB4F14 V15 (in), V16 IO155PB4F14 V16 (in), V17 IO151NB4F13 V17 (in), V18 IO135PB4F12 V18 (in), V19 IO131NB4F12 V19 (in), V20 IO104NB3F9 V20 (in), V21 IO126NB3F11 V21 (in), V22 IO122NB3F11 V22 (in), V23 IO114NB3F10 V23 (in), V24 IO114PB3F10 V24 (in), W6 IO178PB5F16 W6 (in), W7 IO180PB5F16 W7 (in), W8 IO171NB5F16 W8 (in), W9 IO171PB5F16 W9 (in), W10 IO179PB5F16 W10 (in), W11 IO167NB5F15 W11 (in), W12 IO167PB5F15 W12 (in), W13 IO161NB5F15/CLKGN W13 (in), W14 IO159NB4F14/CLKEN W14 (in), W15 IO159PB4F14/CLKEP W15 (in), W16 IO152PB4F14 W16 (in), W17 IO151PB4F13 W17 (in), W18 IO135NB4F12 W18 (in), W19 IO131PB4F12 W19 (in), W20 IO129NB4F12 W20 (in), W22 IO120NB3F11 W22 (in), W23 IO120PB3F11 W23 (in), W24 IO100PB3F9 W24 (in), W25 IO113PB3F10 W25 (in), Y6 IO178NB5F16 Y6 (in), Y7 IO180NB5F16 Y7 (in), Y8 IO177PB5F16 Y8 (in), Y9 IO187PB5F17 Y9 (in), Y10 IO179NB5F16 Y10 (in), Y11 IO173PB5F16 Y11 (in), Y13 IO161PB5F15/CLKGP Y13 (in), Y15 IO153NB4F14 Y15 (in), Y16 IO153PB4F14 Y16 (in), Y17 IO137NB4F12 Y17 (in), Y18 IO133NB4F12 Y18 (in), Y19 IO133PB4F12 Y19 (in), Y20 IO129PB4F12 Y20 (in), Y21 IO128PB3F11 Y21 (in), Y22 IO128NB3F11 Y22 (in), Y23 IO124NB3F11 Y23 (in), Y24 IO116PB3F10 Y24 (in), Y25 IO113NB3F10 Y25 (in)
part C pins: A2 GND A2 (in), A8 GND A8 (in), A18 GND A18 (in), A24 GND A24 (in), A25 GND A25 (in), AA1 IO204NB6F19 AA1 (in), AA2 IO209NB6F19 AA2 (in), AA3 IO194PB6F18 AA3 (in), AA5 GND AA5 (in), AA10 GND AA10 (in), AA16 GND AA16 (in), AA18 GND AA18 (in), AA21 GND AA21 (in), AB1 IO204PB6F19 AB1 (in), AB2 IO209PB6F19 AB2 (in), AB4 GND AB4 (in), AB7 IO192NB5F17 AB7 (in), AB22 GND AB22 (in), AC3 GND AC3 (in), AC6 IO191PB5F17 AC6 (in), AC7 IO192PB5F17 AC7 (in), AC10 GND AC10 (in), AC16 GND AC16 (in), AC23 GND AC23 (in), AD1 GND AD1 (in), AD2 GND AD2 (in), AD24 GND AD24 (in), AD25 GND AD25 (in), AE1 GND AE1 (in), AE2 GND AE2 (in), AE8 GND AE8 (in), AE18 GND AE18 (in), AE24 GND AE24 (in), AE25 GND AE25 (in), B1 GND B1 (in), B2 GND B2 (in), B24 GND B24 (in), B25 GND B25 (in), C3 GND C3 (in), C10 GND C10 (in), C16 GND C16 (in), C23 GND C23 (in), D1 IO234NB7F21 D1 (in), D2 IO248NB7F23 D2 (in), D4 GND D4 (in), D22 GND D22 (in), E1 IO234PB7F21 E1 (in), E2 IO231NB7F21 E2 (in), E3 IO246PB7F22 E3 (in), E5 GND E5 (in), E8 GND/LP E8 (in), E10 GND E10 (in), E16 GND E16 (in), E21 GND E21 (in), F1 IO232NB7F21 F1 (in), F2 IO231PB7F21 F2 (in), F3 IO246NB7F22 F3 (in), G1 IO232PB7F21 G1 (in), G2 IO226PB7F21 G2 (in), G3 IO249PB7F23 G3 (in), G4 IO249NB7F23 G4 (in), H1 GND H1 (in), H2 IO227PB7F21 H2 (in), H3 IO227NB7F21 H3 (in), H4 IO253NB7F23 H4 (in), H5 IO257NB7F23 H5 (in), H6 IO257PB7F23 H6 (in), H21 GND H21 (in), H25 GND H25 (in), J1 IO225PB7F21 J1 (in), J2 IO225NB7F21 J2 (in), J3 IO242NB7F22 J3 (in), J4 IO253PB7F23 J4 (in), J5 IO255PB7F23 J5 (in), J6 IO255NB7F23 J6 (in), K1 IO230NB7F21 K1 (in), K2 IO229NB7F21 K2 (in), K3 GND K3 (in), K4 IO235NB7F21 K4 (in), K5 GND K5 (in), K6 IO247PB7F23 K6 (in), K7 IO247NB7F23 K7 (in), K8 IO245NB7F22 K8 (in), K21 GND K21 (in), K23 GND K23 (in), L1 IO230PB7F21 L1 (in), L2 IO229PB7F21 L2 (in), L3 IO233NB7F21 L3 (in), L4 IO235PB7F21 L4 (in), L5 IO239PB7F22 L5 (in), L6 IO239NB7F22 L6 (in), L7 IO241NB7F22 L7 (in), L8 IO245PB7F22 L8 (in), L11 GND L11 (in), L12 GND L12 (in), M1 IO211NB6F19 M1 (in), M2 IO223NB6F20 M2 (in), M3 IO233PB7F21 M3 (in), M4 IO240NB7F22 M4 (in), M5 IO238NB7F22 M5 (in), M6 IO236NB7F22 M6 (in), M7 IO241PB7F22 M7 (in), M8 IO243PB7F22 M8 (in), M9 IO243NB7F22 M9 (in), N1 IO211PB6F19 N1 (in), N2 IO223PB6F20 N2 (in), N3 IO224NB6F20 N3 (in), N4 IO221NB6F20 N4 (in), N6 IO244PB7F22 N6 (in), N7 IO237PB7F22 N7 (in), N8 IO237NB7F22 N8 (in), N9 IO251PB7F23 N9 (in), N10 IO251NB7F23 N10 (in), P1 IO212NB6F19 P1 (in), P2 IO220NB6F20 P2 (in), P3 IO224PB6F20 P3 (in), P4 IO221PB6F20 P4 (in), P5 IO210NB6F19 P5 (in), P6 IO198NB6F18 P6 (in), P7 IO217NB6F20 P7 (in), P8 IO216NB6F20 P8 (in), P9 IO244NB7F22 P9 (in), R1 IO212PB6F19 R1 (in), R2 IO220PB6F20 R2 (in), R3 IO216PB6F20 R3 (in), R4 IO219NB6F20 R4 (in), R5 IO197NB6F18 R5 (in), R6 IO205NB6F19 R6 (in), R7 IO217PB6F20 R7 (in), R8 IO213NB6F19 R8 (in), T1 IO208NB6F19 T1 (in), T2 IO207NB6F19 T2 (in), T4 IO219PB6F20 T4 (in), T6 IO205PB6F19 T6 (in), T7 IO201NB6F18 T7 (in), T8 IO213PB6F19 T8 (in), U1 IO208PB6F19 U1 (in), U2 IO207PB6F19 U2 (in), U3 IO197PB6F18 U3 (in), U4 IO215NB6F20 U4 (in), U5 IO193PB6F18 U5 (in), U6 IO193NB6F18 U6 (in), U7 IO201PB6F18 U7 (in), V2 IO202NB6F18 V2 (in), V3 IO200NB6F18 V3 (in), V4 IO215PB6F20 V4 (in), V6 IO195NB6F18 V6 (in), W1 IO206NB6F19 W1 (in), W2 IO203NB6F19 W2 (in), W3 IO200PB6F18 W3 (in), W4 IO195PB6F18 W4 (in), W5 IO199PB6F18 W5 (in), Y1 IO206PB6F19 Y1 (in), Y2 IO203PB6F19 Y2 (in), Y3 IO194NB6F18 Y3 (in), Y5 IO199NB6F18 Y5 (in)
part D pins: A3 VCCIB0 A3 (in), A12 VCCDA A12 (in), A13 PRB A13 (in), A14 NC A14 (in), A23 VCCIB1 A23 (in), AA4 VCCIB6 AA4 (in), AA7 VCCDA AA7 (in), AA12 VCOMPLG AA12 (in), AA13 VCCDA AA13 (in), AA14 VCOMPLE AA14 (in), AA15 VCCDA AA15 (in), AA20 NC AA20 (in), AA22 VCCIB3 AA22 (in), AB3 VCCIB6 AB3 (in), AB5 VCCIB5 AB5 (in), AB12 PRC AB12 (in), AB13 NC AB13 (in), AB20 VCCA AB20 (in), AB21 VCCIB4 AB21 (in), AB23 VCCIB3 AB23 (in), AC1 VCCIB6 AC1 (in), AC2 VCCIB6 AC2 (in), AC4 VCCIB5 AC4 (in), AC11 VCCDA AC11 (in), AC22 VCCIB4 AC22 (in), AC24 VCCIB3 AC24 (in), AC25 VCCIB3 AC25 (in), AD3 VCCIB5 AD3 (in), AD4 NC AD4 (in), AD11 VCCDA AD11 (in), AD23 VCCIB4 AD23 (in), AE3 VCCIB5 AE3 (in), AE12 NC AE12 (in), AE13 PRD AE13 (in), AE17 VCCDA AE17 (in), AE23 VCCIB4 AE23 (in), B3 VCCIB0 B3 (in), B15 VCCDA B15 (in), B23 VCCIB1 B23 (in), C1 VCCIB7 C1 (in), C2 VCCIB7 C2 (in), C4 VCCIB0 C4 (in), C5 TDI C5 (in), C6 VCCDA C6 (in), C15 VCCDA C15 (in), C22 VCCIB1 C22 (in), C24 VCCIB2 C24 (in), C25 VCCIB2 C25 (in), D3 VCCIB7 D3 (in), D5 VCCIB0 D5 (in), D6 TMS D6 (in), D13 VCCDA D13 (in), D21 VCCIB1 D21 (in), D23 VCCIB2 D23 (in), E4 VCCIB7 E4 (in), E6 TRST E6 (in), E12 VCCPLA E12 (in), E13 VCCDA E13 (in), E14 VCCPLC E14 (in), E19 VCCDA E19 (in), E20 VPUMP E20 (in), E22 VCCIB2 E22 (in), F4 VCCA F4 (in), F5 TCK F5 (in), F6 TDO F6 (in), F12 VCOMPLA F12 (in), F13 PRA F13 (in), F14 VCOMPLC F14 (in), F21 NC F21 (in), F22 VCCA F22 (in), G5 VCCDA G5 (in), G10 NC G10 (in), H12 VCOMPLB H12 (in), H14 VCCPLD H14 (in), J9 VCCA J9 (in), J10 VCCIB0 J10 (in), J11 VCCIB0 J11 (in), J12 VCCPLB J12 (in), J14 VCOMPLD J14 (in), J15 VCCIB1 J15 (in), J16 VCCIB1 J16 (in), J17 VCCA J17 (in), K9 VCCIB7 K9 (in), K10 VCCA K10 (in), K11 VCCA K11 (in), K12 VCCIB0 K12 (in), K14 VCCIB1 K14 (in), K15 VCCA K15 (in), K16 VCCA K16 (in), K17 VCCIB2 K17 (in), L9 VCCIB7 L9 (in), L10 VCCA L10 (in), L13 GND L13 (in), L14 GND L14 (in), L15 GND L15 (in), L16 VCCA L16 (in), L17 VCCIB2 L17 (in), M10 VCCIB7 M10 (in), M11 GND M11 (in), M12 GND M12 (in), M13 GND M13 (in), M14 GND M14 (in), M15 GND M15 (in), M16 VCCIB2 M16 (in), N5 VCCDA N5 (in), N11 GND N11 (in), N12 GND N12 (in), N13 GND N13 (in), N14 GND N14 (in), N15 GND N15 (in), N21 VCCDA N21 (in), P10 VCCIB6 P10 (in), P11 GND P11 (in), P12 GND P12 (in), P13 GND P13 (in), P14 GND P14 (in), P15 GND P15 (in), P16 VCCIB3 P16 (in), R9 VCCIB6 R9 (in), R10 VCCA R10 (in), R11 GND R11 (in), R12 GND R12 (in), R13 GND R13 (in), R14 GND R14 (in), R15 GND R15 (in), R16 VCCA R16 (in), R17 VCCIB3 R17 (in), T3 GND T3 (in), T5 GND T5 (in), T9 VCCIB6 T9 (in), T10 VCCA T10 (in), T11 VCCA T11 (in), T12 VCCIB5 T12 (in), T14 VCCIB4 T14 (in), T15 VCCA T15 (in), T16 VCCA T16 (in), T17 VCCIB3 T17 (in), T21 GND T21 (in), T23 GND T23 (in), U9 VCCA U9 (in), U10 VCCIB5 U10 (in), U11 VCCIB5 U11 (in), U12 VCCPLH U12 (in), U14 VCCPLF U14 (in), U15 VCCIB4 U15 (in), U16 VCCIB4 U16 (in), U17 VCCA U17 (in), V1 GND V1 (in), V5 GND V5 (in), V12 VCOMPLH V12 (in), V14 VCOMPLF V14 (in), V25 GND V25 (in), W21 VCCDA W21 (in), Y4 VCCA Y4 (in), Y12 VCCPLG Y12 (in), Y14 VCCPLE Y14 (in)

## CMT2110A
designator U?
RF
footprint SOT23-6
pins: 1 XTAL, 2 GND, 3 DATA, 4 CLK, 5 RFO, 6 VDD

## Credit Card PAD
designator U?
footprint Sim_Pad
pins: 1 C1, 2 C2, 3 C3, 4 C4, 5 C5, 6 C6, 7 C7, 8 C8

## CS5463
designator *
pins: 1 XOUT, 2 CPUCLK, 3 VD+, 4 DGND, 5 SCLK, 5 SDO, 7 ~{CS}, 9 VIN+, 10 VIN-, 11 VREFOUT, 12 VREFIN, 13 AGND, 14 VA+, 15 IIN-, 16 IIN+, 17 PFMON, 19 ~{RESET}, 20 ~{INT}, 21 ~{E1}, 22 ~{E2}, 23 SDI, 24 XIN

## CS6422
designator U?
Supplier 1: Mouser; Supplier Part Number 1: 777-CS6422-CSZR
footprint SOIC20
pins: 1 AVDD, 2 AGND, 3 AO, 4 NO, 5 ~{RST}, 6 ~{DRDY}, 7 STROBE, 8 DATA, 9 NC1, 10 NC2, 11 NC3, 12 NC4, 13 CLKO, 14 CLKI, 15 DGND, 16 DVDD, 17 NI, 18 APO, 19 MB, 20 API

## CY8PLC10
designator U?, comment CY8CPLC10
Power Line Controller; Manufacturer: Cypress Semiconductor; Manufacturer Part#: CY8CPLC10; Value: CY8CPLC10; Digi-Key#: CY8CPLC10-28PVXI-ND
footprint SSOP-28
pins: 1 RX_LED (out), 2 RSVD, 3 FSK_OUT (out), 4 CLKSEL (in), 5 TX_SHUTDOWN (out), 6 LOG_ADDR_0 (in), 7 LOG_ADDR_1 (in), 8 LOG_ADDR_2 (in), 9 NC, 10 I2C_SCL (io) "P17/I2C clk", 11 I2C_SDA (io) "P15/I2C data", 12 XTAL_STABILITY (io) "P13/XtalIN/I2C Clk", 13 XTAL_IN (io) "P11/Xtal_IN/I2C clk/SCLK", 14 Vss (power), 15 XTAL_OUT (io) "P10/Xtal_Out/I2C data/SDATA", 16 TX_LED (out), 17 EXT_CLK (out) "P14/Ext Clock", 18 BIU_LED (out), 19 RESET (in) "Reset", 20 RXCOMP+ (io), 21 RXCOMP- (io), 22 AGND (power) "P22/Ext AGND", 23 HOST_INT (out) "P26/Ext Ref", 24 RSVD, 25 RSVD, 26 I2C_ADDR (in), 27 FSK_IN (in), 28 VCC (power)

## DAC8311
designator U?
DAC
footprint SOT363-6
pins: 1 SYNC, 2 SCLK, 3 DIN, 4 VCC, 5 GND, 6 VOUT

## DRV8833
designator U?
H-Bridge
footprint TSSOP_E170_P0.65_16
pins: 1 nSLEEP, 2 AOUT1, 3 AISEN, 4 AOUT2, 5 BOUT2, 6 BISEN, 7 BOUT1, 8 nFAULT, 9 BIN1, 10 BIN2, 11 VCP, 12 VM, 13 GND, 14 VINT, 15 AIN2, 16 AIN1

## DS24B33
designator U?
EEPROM
footprint SFN_6x6_2
pins: 1 IO, 2 GND

## DS90CF384A
designator U?
DS90CF384A
footprint TSSOP-56
pins: 1 RXOUT22, 2 RXOUT23, 3 RXOUT24, 4 GND, 5 RXOUT25, 6 RXOUT26, 7 RXOUT27, 8 LVDS_GND, 9 RXIN0-, 10 RXIN0+, 11 RXIN1-, 12 RXIN1+, 13 LVDS_VCC (power), 14 LVDS_GND_1, 15 RXIN2-, 16 RXIN2+, 17 RXCLKIN-, 18 RXCLKIN+, 19 RXIN3-, 20 RXIN3+, 21 LVDS_GND_2, 22 PLL_GND, 23 PLL_VCC (power), 24 PLL_GND_1, 25 ~{PWR_DOWN}, 26 RXCLK_OUT, 27 RXOUT0, 28 GND_1, 29 RXOUT1, 30 RXOUT2, 31 VCC (power), 32 RXOUT3, 33 RXOUT4, 34 RXOUT5, 35 RXOUT6, 36 GND_2, 37 RXOUT7, 38 RXOUT8, 39 RXOUT9, 40 VCC_1 (power), 41 RXOUT10, 42 RXOUT11, 43 RXOUT12, 44 GND_3, 45 RXOUT13, 46 RXOUT14, 47 RXOUT15, 48 VCC_2 (power), 49 RXOUT16, 50 RXOUT17, 51 RXOUT18, 52 GND_4, 53 RXOUT19, 54 RXOUT20, 55 RXOUT21, 56 VCC_3 (power)

## DS1669
designator U?
footprint uSOP-8
pins: 1 Rh, 2 UC, 3 STR, 4 RL, 5 GND, 6 Rw, 7 DC, 8 Vcc
text: DS1809

## DS2480B
designator U?
Serial to 1-Wire
footprint SOP_E150_8
pins: 1 GND, 2 1-W, 3 NC, 4 VDD, 5 VPP, 6 POL, 7 TXD, 8 RXD

## ENC28J60_SS
designator U?
Ethernet ICs 8 KB RAM MAC&PHY Ethernet Controller; Manufacturer_Name: Microchip; Manufacturer_Part_Number: ENC28J60/SS; Allied_Number: 70046819; Geometry.Height: 2mm; RS Part Number: 6665713P; RS Price/Stock: http://uk.rs-online.com/web/p/products/6665713P; Allied Price/Stock: http://www.alliedelec.com/microchip-technology-inc-enc28j60-ss/70046819/; Arrow Part Number: ENC28J60/SS; Arrow Price/Stock: https://www.arrow.com/en/products/enc28j60ss/microchip-technology; Datasheet Link: http://docs-europe.electrocomponents.com/webdocs/0cee/0900766b80ceeb3f.pdf
footprint SSOP-28
pins: 1 VCAP, 2 VSS, 3 CLKOUT, 4 ~{INT}, 5 NC, 6 SO, 7 SI, 8 SCK, 9 ~{CS}, 10 ~{RESET}, 11 VSSRX, 12 TPIN-, 13 TPIN+, 14 RBIAS, 15 VDDTX (power), 16 TPOUT-, 17 TPOUT+, 18 VSSTX, 19 VDDRX (power), 20 VDDPLL (power), 21 VSSPLL, 22 VSSOSC, 23 OSC1, 24 OSC2, 25 VDDOSC (power), 26 LEDB, 27 LEDA, 28 VDD (power)

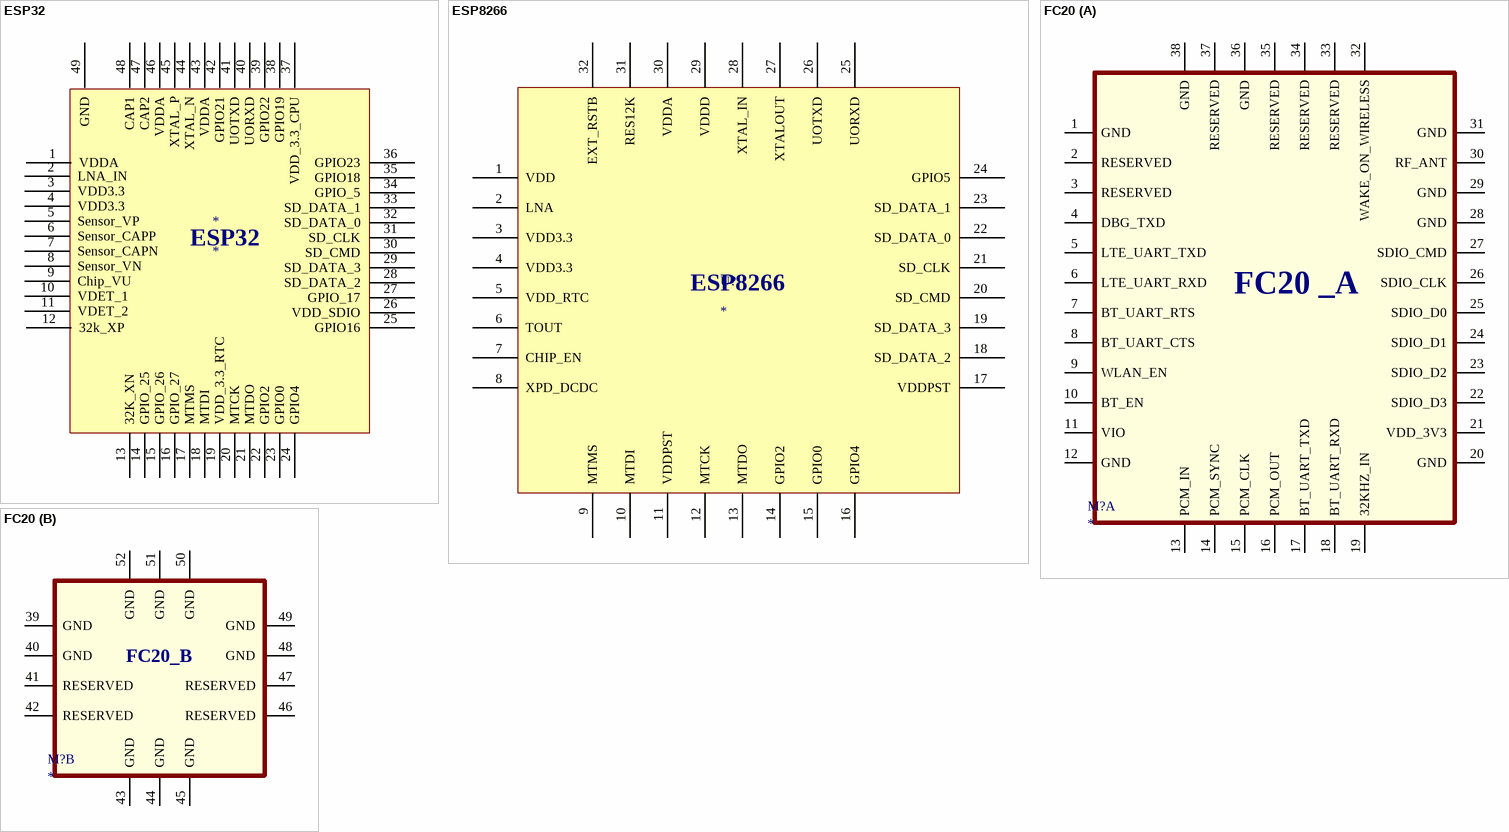
[diagram p91: symbols ESP32 to FC20]

## ESP32
designator *
footprint QFN48_6x6 (QFN, 48-Leads, Body 6.05x6.05mm, Pitch 0.40mm, Thermal Pad 4.25x4.25mm, IPC Medium Density)
pins: 1 VDDA, 2 LNA_IN, 3 VDD3.3, 4 VDD3.3, 5 Sensor_VP, 6 Sensor_CAPP, 7 Sensor_CAPN, 8 Sensor_VN, 9 Chip_VU, 10 VDET_1, 11 VDET_2, 12 32k_XP, 13 32K_XN, 14 GPIO_25, 15 GPIO_26, 16 GPIO_27, 17 MTMS, 18 MTDI, 19 VDD_3.3_RTC, 20 MTCK, 21 MTDO, 22 GPIO2, 23 GPIO0, 24 GPIO4, 25 GPIO16, 26 VDD_SDIO, 27 GPIO_17, 28 SD_DATA_2, 29 SD_DATA_3, 30 SD_CMD, 31 SD_CLK, 32 SD_DATA_0, 33 SD_DATA_1, 34 GPIO_5, 35 GPIO18, 36 GPIO23, 37 VDD_3.3_CPU, 38 GPIO19, 39 GPIO22, 40 UORXD, 41 UOTXD, 42 GPIO21, 43 VDDA, 44 XTAL_N, 45 XTAL_P, 46 VDDA, 47 CAP2, 48 CAP1, 49 GND

## ESP8266
designator U?
footprint QFN32
pins: 1 VDD, 2 LNA, 3 VDD3.3, 4 VDD3.3, 5 VDD_RTC, 6 TOUT, 7 CHIP_EN, 8 XPD_DCDC, 9 MTMS, 10 MTDI, 11 VDDPST, 12 MTCK, 13 MTDO, 14 GPIO2, 15 GPIO0, 16 GPIO4, 17 VDDPST, 18 SD_DATA_2, 19 SD_DATA_3, 20 SD_CMD, 21 SD_CLK, 22 SD_DATA_0, 23 SD_DATA_1, 24 GPIO5, 25 UORXD, 26 UOTXD, 27 XTALOUT, 28 XTAL_IN, 29 VDDD, 30 VDDA, 31 RES12K, 32 EXT_RSTB

## FC20
designator M?
footprint FC_20
part A pins: 1 GND, 2 RESERVED, 3 RESERVED, 4 DBG_TXD, 5 LTE_UART_TXD, 6 LTE_UART_RXD, 7 BT_UART_RTS, 8 BT_UART_CTS, 9 WLAN_EN, 10 BT_EN, 11 VIO, 12 GND, 13 PCM_IN, 14 PCM_SYNC, 15 PCM_CLK, 16 PCM_OUT, 17 BT_UART_TXD, 18 BT_UART_RXD, 19 32KHZ_IN, 20 GND, 21 VDD_3V3, 22 SDIO_D3, 23 SDIO_D2, 24 SDIO_D1, 25 SDIO_D0, 26 SDIO_CLK, 27 SDIO_CMD, 28 GND, 29 GND, 30 RF_ANT, 31 GND, 32 WAKE_ON_WIRELESS, 33 RESERVED, 34 RESERVED, 35 RESERVED, 36 GND, 37 RESERVED, 38 GND
part B pins: 39 GND, 40 GND, 41 RESERVED, 42 RESERVED, 43 GND, 44 GND, 45 GND, 46 RESERVED, 47 RESERVED, 48 GND, 49 GND, 50 GND, 51 GND, 52 GND
part A text: FC20 _A
part B text: FC20_B

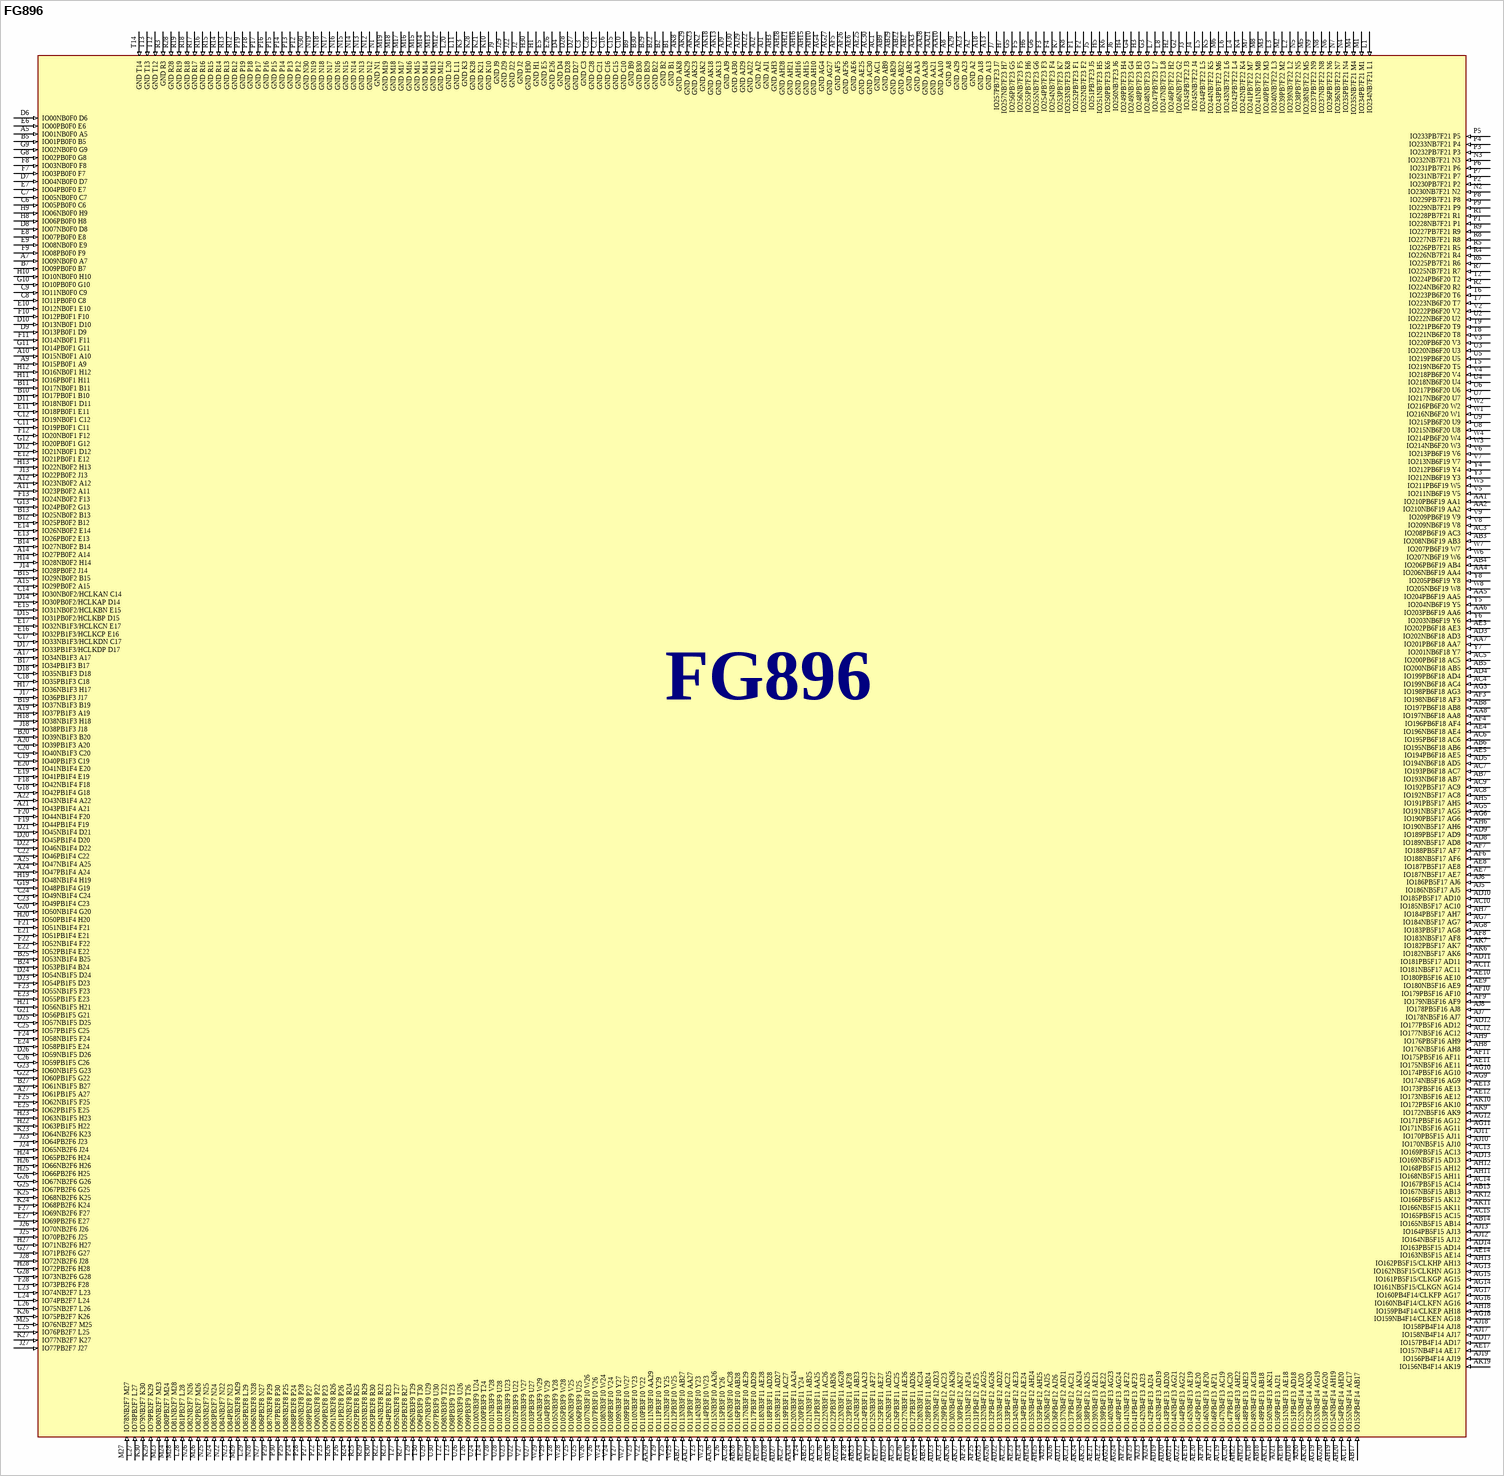
[diagram p92: symbol FG896]